# Altium footprint library MBR120.PCBLIB: 1 footprints
Each footprint in its own frame and in the unit in brackets; x right, y up, seen from the top. Pads: shape width x height; smd on the part's side, far side on the other; paste and mask are expansions set on the pad; w line width, h text height; cw(c..) or ccw(c..) is an arc to the next point about the centre after c.
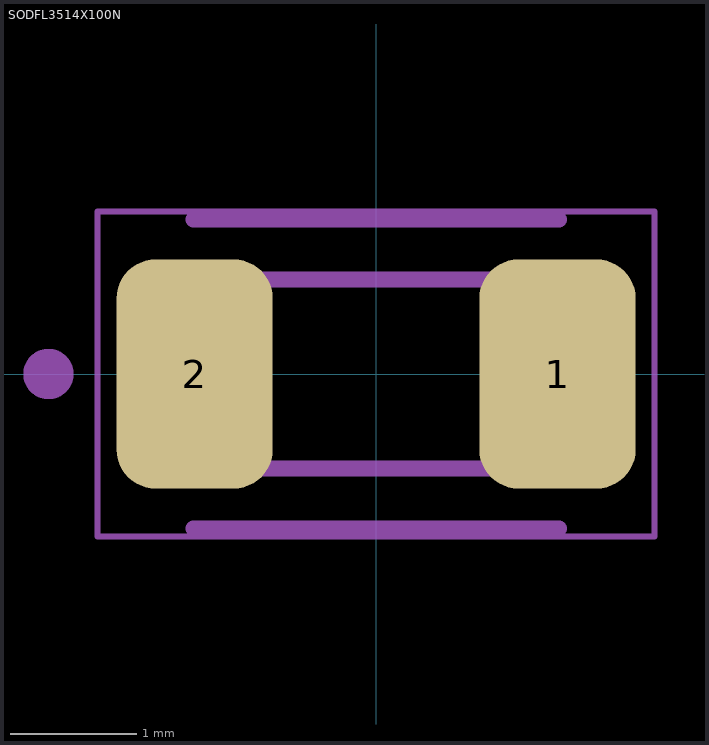
[diagram p0: the footprint, top view; thin cyan lines are the x and y axes]

## SODFL3514X100N [mm]
pads (2):
  rrect50% 1.24x1.82 smd: 1(1.44,0) 2(-1.44,0)
Assembly Top:
  circle w0.2: c-2.6,0 r0.1
  lines w0.127: -1.5,-0.75 -1.5,0.75 1.5,0.75 1.5,-0.75 -1.5,-0.75
Mechanical 22:
  circle w0.2: c-2.6,0 r0.1
  lines w0.127: -1.45,-1.225 1.45,-1.225 ; -1.45,1.225 1.45,1.225
Mechanical 30:
  lines w0.05: -2.21,-1.289 -2.21,1.289 2.21,1.289 2.21,-1.289 -2.21,-1.289